# Altium schematic symbol library fpga_xilinx_ultrascale.SchLib: 7 symbols (part 6 of 6)
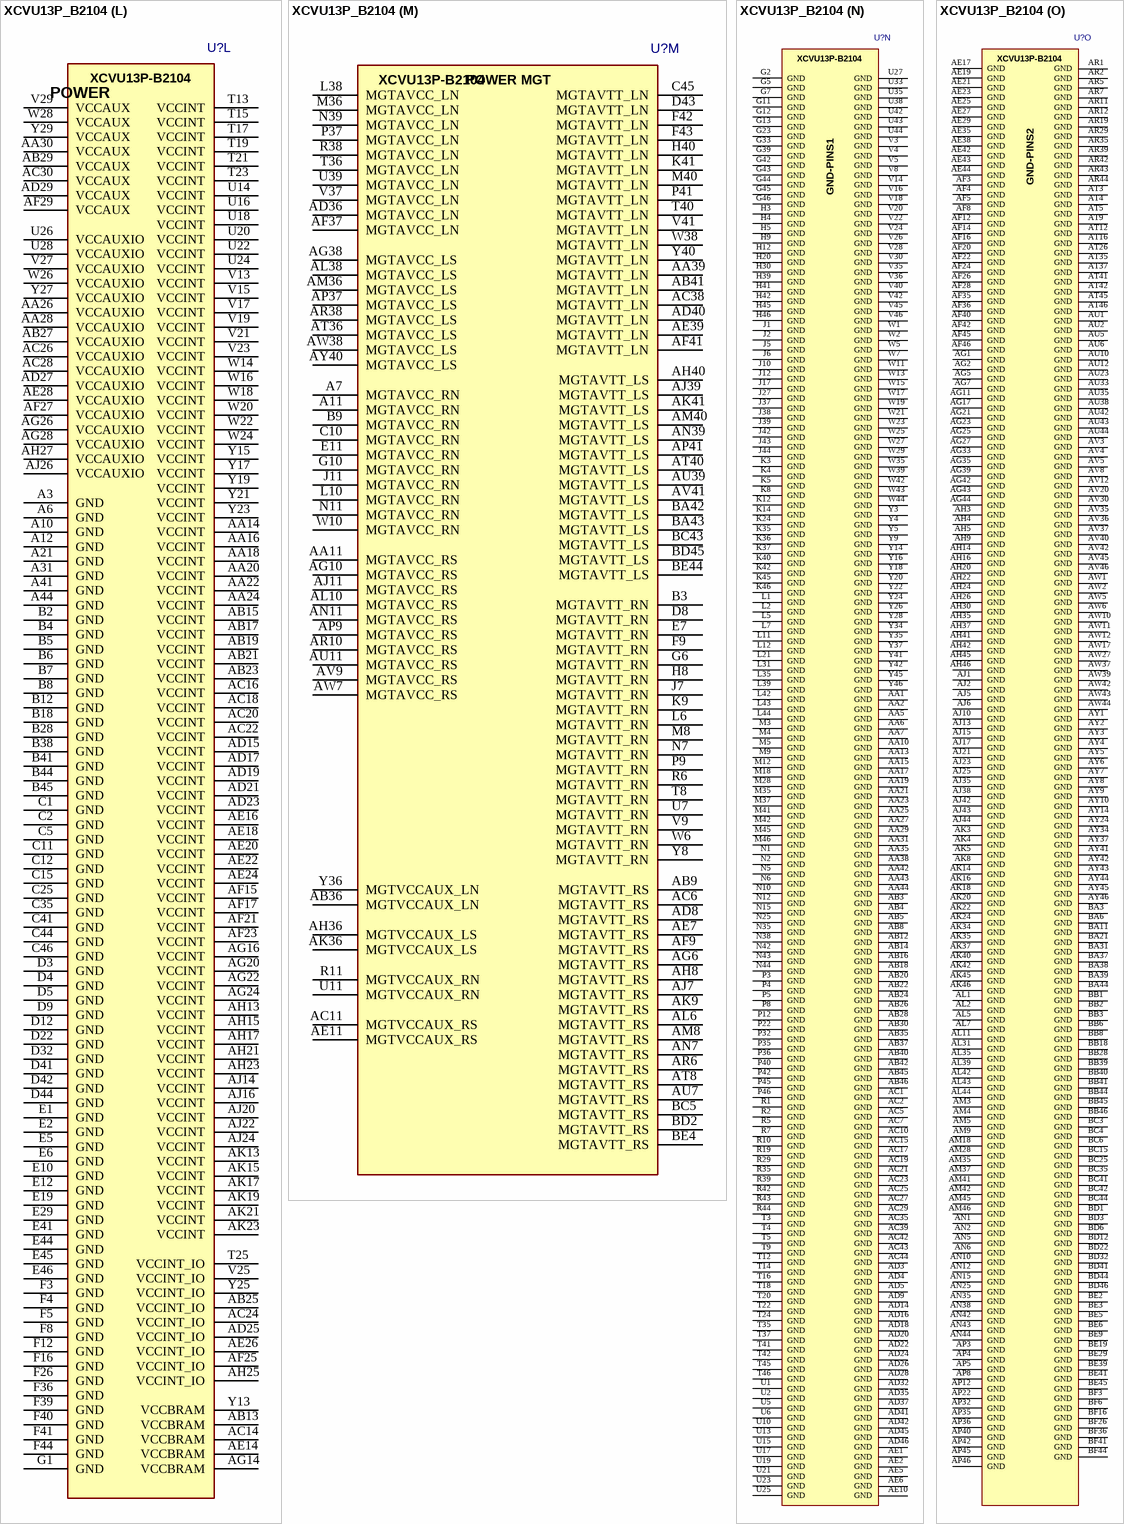
[diagram p34: symbol XCVU13P_B2104]

## XCVU13P_B2104
designator U?  (value not drawn)
Xilinx FPGA Ultrascale, Virtex KU115, BGA2104; MANF_P#: XCVU13P-2FHGB2104E; ASSEMBLY: ASSEMBLY; MANF: XILINX; VALUE: XCVU13P_B2104; PACKAGE: FHGB2104
footprint BGA100_2104_S52 (Footprint not found)
part A pins: AA12 PUDC_B_0, AC12 DONE_0, AC13 TDO_0, AD12 POR_OVERRIDE, AD13 VCCO_0, AE12 PROGRAM_B_0, AE13 TCK_0, AE15 TDI_0, AF13 VCCO_0, AF18 GNDADC, AF19 VCCADC, AG12 RDWR_FCS_B_0, AG13 CCLK_0, AG15 TMS_0, AG18 VREFN, AG19 VP, AH12 D03_0, AH18 VN, AH19 VREFP, AJ12 D01_DIN_0, AJ18 DXN, AJ19 DXP, AK12 D00_MOSI_0, AL12 D02_0, AM12 VBATT, R12 M2_0, U12 M1_0, V12 M0_0, W12 RSVDGND, Y12 INIT_B_0
part B pins: AK30 VREF_61, AK33 VREF_62, AL29 IO_L24P_T3U_N10_61, AL30 IO_L24N_T3U_N11_61, AL32 IO_L23P_T3U_N8_62, AL33 IO_T3U_N12_62, AL34 IO_L24P_T3U_N10_62, AM29 IO_L22P_T3U_N6_DBC_AD0P_61, AM30 IO_L22N_T3U_N7_DBC_AD0N_61, AM31 IO_L23P_T3U_N8_61, AM32 IO_L23N_T3U_N9_62, AM33 VCCO_62, AM34 IO_L24N_T3U_N11_62, AN29 IO_L21P_T3L_N4_AD8P_61, AN30 VCCO_61, AN31 IO_L23N_T3U_N9_61, AN32 IO_L22P_T3U_N6_DBC_AD0P_62, AN33 IO_L22N_T3U_N7_DBC_AD0N_62, AN34 IO_L21P_T3L_N4_AD8P_62, AP29 IO_L21N_T3L_N5_AD8N_61, AP30 IO_L20P_T3L_N2_AD1P_61, AP31 IO_L19P_T3L_N0_DBC_AD9P_61, AP33 IO_L20P_T3L_N2_AD1P_62, AP34 IO_L21N_T3L_N5_AD8N_62, AR30 IO_L20N_T3L_N3_AD1N_61, AR31 IO_L19N_T3L_N1_DBC_AD9N_61, AR32 IO_T3U_N12_61, AR33 IO_L20N_T3L_N3_AD1N_62, AR34 VCCO_62, AT29 IO_L18P_T2U_N10_AD2P_61, AT30 IO_L18N_T2U_N11_AD2N_61, AT31 VCCO_61, AT32 IO_T2U_N12_61, AT33 IO_L19P_T3L_N0_DBC_AD9P_62, AT34 IO_L19N_T3L_N1_DBC_AD9N_62, AU29 IO_L16P_T2U_N6_QBC_AD3P_61, AU30 IO_L17P_T2U_N8_AD10P_61, AU31 IO_L17N_T2U_N9_AD10N_61, AU32 IO_L15P_T2L_N4_AD11P_61, AU34 IO_T2U_N12_62, AV29 IO_L16N_T2U_N7_QBC_AD3N_61, AV31 IO_L14P_T2L_N2_GC_61, AV32 IO_L15N_T2L_N5_AD11N_61, AV33 IO_L18P_T2U_N10_AD2P_62, AV34 IO_L17P_T2U_N8_AD10P_62, AW29 IO_L13P_T2L_N0_GC_QBC_61, AW30 IO_L13N_T2L_N1_GC_QBC_61, AW31 IO_L14N_T2L_N3_GC_61, AW32 VCCO_61, AW33 IO_L18N_T2U_N11_AD2N_62, AW34 IO_L17N_T2U_N9_AD10N_62, AW35 IO_L16P_T2U_N6_QBC_AD3P_62, AW36 IO_L16N_T2U_N7_QBC_AD3N_62, AY29 VCCO_61, AY30 IO_L11P_T1U_N8_GC_61, AY31 IO_L12P_T1U_N10_GC_61, AY32 IO_L12N_T1U_N11_GC_61, AY33 IO_L15P_T2L_N4_AD11P_62, AY35 IO_L14P_T2L_N2_GC_62, AY36 IO_L14N_T2L_N3_GC_62, BA29 IO_L9P_T1L_N4_AD12P_61, BA30 IO_L11N_T1U_N9_GC_61, BA32 IO_L10P_T1U_N6_QBC_AD4P_61, BA33 IO_L15N_T2L_N5_AD11N_62, BA34 IO_L13P_T2L_N0_GC_QBC_62, BA35 IO_L12P_T1U_N10_GC_62, BA36 VCCO_62, BB29 IO_L9N_T1L_N5_AD12N_61, BB30 IO_L8P_T1L_N2_AD5P_61, BB31 IO_L8N_T1L_N3_AD5N_61, BB32 IO_L10N_T1U_N7_QBC_AD4N_61, BB33 VCCO_62, BB34 IO_L13N_T2L_N1_GC_QBC_62, BB35 IO_L12N_T1U_N11_GC_62, BB36 IO_L11P_T1U_N8_GC_62, BB37 IO_L10P_T1U_N6_QBC_AD4P_62, BB38 IO_L6P_T0U_N10_AD6P_62, BC29 IO_L6P_T0U_N10_AD6P_61, BC30 VCCO_61, BC31 IO_L7P_T1L_N0_QBC_AD13P_61, BC32 IO_L7N_T1L_N1_QBC_AD13N_61, BC33 IO_T1U_N12_61, BC34 IO_L7P_T1L_N0_QBC_AD13P_62, BC36 IO_L11N_T1U_N9_GC_62, BC37 IO_L10N_T1U_N7_QBC_AD4N_62, BC38 IO_L6N_T0U_N11_AD6N_62, BC39 IO_L5P_T0U_N8_AD14P_62, BC40 VCCO_62, BD29 IO_L6N_T0U_N11_AD6N_61, BD30 IO_L4P_T0U_N6_DBC_AD7P_61, BD31 IO_L4N_T0U_N7_DBC_AD7N_61, BD33 IO_L5P_T0U_N8_AD14P_61, BD34 IO_L7N_T1L_N1_QBC_AD13N_62, BD35 IO_L8P_T1L_N2_AD5P_62, BD36 IO_L9P_T1L_N4_AD12P_62, BD37 VCCO_62, BD38 IO_T0U_N12_VRP_62, BD39 IO_L5N_T0U_N9_AD14N_62, BD40 IO_L4P_T0U_N6_DBC_AD7P_62, BE30 IO_L3P_T0L_N4_AD15P_61, BE31 IO_L2P_T0L_N2_61, BE32 IO_L2N_T0L_N3_61, BE33 IO_L5N_T0U_N9_AD14N_61, BE34 VCCO_62, BE35 IO_L8N_T1L_N3_AD5N_62, BE36 IO_L9N_T1L_N5_AD12N_62, BE37 IO_L3P_T0L_N4_AD15P_62, BE38 IO_L2P_T0L_N2_62, BE40 IO_L4N_T0U_N7_DBC_AD7N_62, BF30 IO_L3N_T0L_N5_AD15N_61, BF31 VCCO_61, BF32 IO_L1P_T0L_N0_DBC_61, BF33 IO_L1N_T0L_N1_DBC_61, BF34 IO_T0U_N12_VRP_61, BF35 IO_T1U_N12_62, BF37 IO_L3N_T0L_N5_AD15N_62, BF38 IO_L2N_T0L_N3_62, BF39 IO_L1P_T0L_N0_DBC_62, BF40 IO_L1N_T0L_N1_DBC_62
part C pins: AA32 IO_L19P_T3L_N0_DBC_AD9P_63, AA33 IO_L19N_T3L_N1_DBC_AD9N_63, AA34 IO_L20P_T3L_N2_AD1P_63, AB31 VREF_63, AB32 IO_T3U_N12_63, AB33 VCCO_63, AB34 IO_L20N_T3L_N3_AD1N_63, AC31 IO_L16P_T2U_N6_QBC_AD3P_63, AC32 IO_L17P_T2U_N8_AD10P_63, AC33 IO_L17N_T2U_N9_AD10N_63, AC34 IO_L18P_T2U_N10_AD2P_63, AD30 IO_T2U_N12_63, AD31 IO_L16N_T2U_N7_QBC_AD3N_63, AD33 IO_L14P_T2L_N2_GC_63, AD34 IO_L18N_T2U_N11_AD2N_63, AE30 IO_L15P_T2L_N4_AD11P_63, AE31 IO_L13P_T2L_N0_GC_QBC_63, AE32 IO_L13N_T2L_N1_GC_QBC_63, AE33 IO_L14N_T2L_N3_GC_63, AE34 VCCO_63, AF30 IO_L15N_T2L_N5_AD11N_63, AF31 VCCO_63, AF32 IO_L12P_T1U_N10_GC_63, AF33 IO_L12N_T1U_N11_GC_63, AF34 IO_L9P_T1L_N4_AD12P_63, AG29 IO_L5P_T0U_N8_AD14P_63, AG30 IO_L5N_T0U_N9_AD14N_63, AG31 IO_L11P_T1U_N8_GC_63, AG32 IO_L11N_T1U_N9_GC_63, AG34 IO_L9N_T1L_N5_AD12N_63, AH28 IO_L4P_T0U_N6_DBC_AD7P_63, AH29 IO_L4N_T0U_N7_DBC_AD7N_63, AH31 IO_L10P_T1U_N6_QBC_AD4P_63, AH32 IO_L10N_T1U_N7_QBC_AD4N_63, AH33 IO_L8P_T1L_N2_AD5P_63, AH34 IO_L7P_T1L_N0_QBC_AD13P_63, AJ27 IO_L1P_T0L_N0_DBC_63, AJ28 IO_L2P_T0L_N2_63, AJ29 IO_L3P_T0L_N4_AD15P_63, AJ30 IO_L3N_T0L_N5_AD15N_63, AJ31 IO_L6P_T0U_N10_AD6P_63, AJ32 VCCO_63, AJ33 IO_L8N_T1L_N3_AD5N_63, AJ34 IO_L7N_T1L_N1_QBC_AD13N_63, AK26 IO_T0U_N12_VRP_63, AK27 IO_L1N_T0L_N1_DBC_63, AK28 IO_L2N_T0L_N3_63, AK29 VCCO_63, AK31 IO_L6N_T0U_N11_AD6N_63, AK32 IO_T1U_N12_63, AL21 IO_L24P_T3U_N10_64, AL22 IO_L23P_T3U_N8_64, AL23 VREF_64, AL24 IO_L22P_T3U_N6_DBC_AD0P_64, AM21 IO_L24N_T3U_N11_64, AM22 IO_L23N_T3U_N9_64, AM23 VCCO_64, AM24 IO_L22N_T3U_N7_DBC_AD0N_64, AN21 IO_L19N_T3L_N1_DBC_AD9N_64, AN22 IO_L19P_T3L_N0_DBC_AD9P_64, AN23 IO_L20P_T3L_N2_AD1P_64, AN24 IO_L21P_T3L_N4_AD8P_64, AP21 IO_T3U_N12_64, AP23 IO_L20N_T3L_N3_AD1N_64, AP24 IO_L21N_T3L_N5_AD8N_64, AR21 IO_T2U_N12_64, AR22 IO_L16P_T2U_N6_QBC_AD3P_64, AR23 IO_L17P_T2U_N8_AD10P_64, AR24 VCCO_64, AT21 VCCO_64, AT22 IO_L16N_T2U_N7_QBC_AD3N_64, AT23 IO_L17N_T2U_N9_AD10N_64, AT24 IO_L18P_T2U_N10_AD2P_64, AU22 IO_L15P_T2L_N4_AD11P_64, AU24 IO_L18N_T2U_N11_AD2N_64, AV22 IO_L15N_T2L_N5_AD11N_64, AV23 IO_L13P_T2L_N0_GC_QBC_64, AV24 IO_L14P_T2L_N2_GC_64, AW22 VCCO_64, AW23 IO_L13N_T2L_N1_GC_QBC_64, AW24 IO_L14N_T2L_N3_GC_64, AY21 NC, AY22 IO_L11P_T1U_N8_GC_64, AY23 IO_L12P_T1U_N10_GC_64, BA20 IO_L7P_T1L_N0_QBC_AD13P_64, BA22 IO_L11N_T1U_N9_GC_64, BA23 IO_L12N_T1U_N11_GC_64, BA24 IO_L10P_T1U_N6_QBC_AD4P_64, BB20 IO_L7N_T1L_N1_QBC_AD13N_64, BB21 IO_L8P_T1L_N2_AD5P_64, BB22 IO_L9P_T1L_N4_AD12P_64, BB23 VCCO_64, BB24 IO_L10N_T1U_N7_QBC_AD4N_64, BC20 VCCO_64, BC21 IO_L8N_T1L_N3_AD5N_64, BC22 IO_L9N_T1L_N5_AD12N_64, BC23 IO_T1U_N12_64, BC24 IO_L3P_T0L_N4_AD15P_64, BD20 IO_L6P_T0U_N10_AD6P_64, BD21 IO_L5P_T0U_N8_AD14P_64, BD23 IO_L2P_T0L_N2_64, BD24 IO_L3N_T0L_N5_AD15N_64, BE20 IO_L6N_T0U_N11_AD6N_64, BE21 IO_L5N_T0U_N9_AD14N_64, BE22 IO_L4P_T0U_N6_DBC_AD7P_64, BE23 IO_L2N_T0L_N3_64, BE24 VCCO_64, BF20 IO_T0U_N12_VRP_64, BF21 VCCO_64, BF22 IO_L4N_T0U_N7_DBC_AD7N_64, BF23 IO_L1N_T0L_N1_DBC_64, BF24 IO_L1P_T0L_N0_DBC_64, W30 IO_L21P_T3L_N4_AD8P_63, W31 IO_L22P_T3U_N6_DBC_AD0P_63, W32 VCCO_63, W33 IO_L24P_T3U_N10_63, W34 IO_L24N_T3U_N11_63, Y30 IO_L21N_T3L_N5_AD8N_63, Y31 IO_L22N_T3U_N7_DBC_AD0N_63, Y32 IO_L23P_T3U_N8_63, Y33 IO_L23N_T3U_N9_63
part D pins: AK25 VREF_65, AL16 VCCO_66, AL17 IO_L22P_T3U_N6_DBC_AD0P_66, AL18 VREF_66, AL19 IO_L23P_T3U_N8_66, AL20 IO_L24P_T3U_N10_66, AL25 IO_L21P_T3L_N4_AD8P_D06_65, AL26 VCCO_65, AL27 IO_L24P_T3U_N10_EMCCLK_65, AL28 IO_L24N_T3U_N11_DOUT_CSO_B_65, AM16 IO_L21P_T3L_N4_AD8P_66, AM17 IO_L22N_T3U_N7_DBC_AD0N_66, AM19 IO_L23N_T3U_N9_66, AM20 IO_L24N_T3U_N11_66, AM25 IO_L21N_T3L_N5_AD8N_D07_65, AM26 IO_L22P_T3U_N6_DBC_AD0P_D04_65, AM27 IO_L23P_T3U_N8_I2C_SCLK_65, AN16 IO_L21N_T3L_N5_AD8N_66, AN17 IO_L19N_T3L_N1_DBC_AD9N_66, AN18 IO_L19P_T3L_N0_DBC_AD9P_66, AN19 IO_L20P_T3L_N2_AD1P_66, AN20 VCCO_66, AN26 IO_L22N_T3U_N7_DBC_AD0N_D05_65, AN27 IO_L23N_T3U_N9_PERSTN1_I2C_SDA_65, AN28 IO_L20P_T3L_N2_AD1P_D08_65, AP16 IO_T3U_N12_66, AP17 VCCO_66, AP18 IO_L17P_T2U_N8_AD10P_66, AP19 IO_L20N_T3L_N3_AD1N_66, AP20 IO_L18P_T2U_N10_AD2P_66, AP25 IO_L19P_T3L_N0_DBC_AD9P_D10_65, AP26 IO_L19N_T3L_N1_DBC_AD9N_D11_65, AP27 VCCO_65, AP28 IO_L20N_T3L_N3_AD1N_D09_65, AR17 IO_L16P_T2U_N6_QBC_AD3P_66, AR18 IO_L17N_T2U_N9_AD10N_66, AR20 IO_L18N_T2U_N11_AD2N_66, AR25 IO_L16P_T2U_N6_QBC_AD3P_A00_D16_65, AR26 IO_T3U_N12_PERSTN0_65, AR27 IO_L17P_T2U_N8_AD10P_D14_65, AR28 IO_L18P_T2U_N10_AD2P_D12_65, AT17 IO_L16N_T2U_N7_QBC_AD3N_66, AT18 IO_L15P_T2L_N4_AD11P_66, AT19 IO_L13P_T2L_N0_GC_QBC_66, AT20 IO_L14P_T2L_N2_GC_66, AT25 IO_L16N_T2U_N7_QBC_AD3N_A01_D17_65, AT27 IO_L17N_T2U_N9_AD10N_D15_65, AT28 IO_L18N_T2U_N11_AD2N_D13_65, AU17 IO_L15N_T2L_N5_AD11N_66, AU18 VCCO_66, AU19 IO_L13N_T2L_N1_GC_QBC_66, AU20 IO_L14N_T2L_N3_GC_66, AU21 IO_T2U_N12_66, AU25 IO_T2U_N12_CSI_ADV_B_65, AU26 IO_L15P_T2L_N4_AD11P_A02_D18_65, AU27 IO_L15N_T2L_N5_AD11N_A03_D19_65, AU28 VCCO_65, AV17 IO_T1U_N12_66, AV18 IO_L11P_T1U_N8_GC_66, AV19 IO_L12P_T1U_N10_GC_66, AV21 IO_L10P_T1U_N6_QBC_AD4P_66, AV25 VCCO_65, AV26 IO_L13P_T2L_N0_GC_QBC_A06_D22_65, AV27 IO_L14P_T2L_N2_GC_A04_D20_65, AV28 IO_L14N_T2L_N3_GC_A05_D21_65, AW18 IO_L11N_T1U_N9_GC_66, AW19 IO_L12N_T1U_N11_GC_66, AW20 IO_L9P_T1L_N4_AD12P_66, AW21 IO_L10N_T1U_N7_QBC_AD4N_66, AW25 IO_L10P_T1U_N6_QBC_AD4P_A12_D28_65, AW26 IO_L13N_T2L_N1_GC_QBC_A07_D23_65, AW28 IO_L12P_T1U_N10_GC_A08_D24_65, AY17 IO_L7P_T1L_N0_QBC_AD13P_66, AY18 IO_L8P_T1L_N2_AD5P_66, AY19 VCCO_66, AY20 IO_L9N_T1L_N5_AD12N_66, AY25 IO_L10N_T1U_N7_QBC_AD4N_A13_D29_65, AY26 IO_L11P_T1U_N8_GC_A10_D26_65, AY27 IO_L11N_T1U_N9_GC_A11_D27_65, AY28 IO_L12N_T1U_N11_GC_A09_D25_65, BA17 IO_L7N_T1L_N1_QBC_AD13N_66, BA18 IO_L8N_T1L_N3_AD5N_66, BA19 IO_T0U_N12_VRP_66, BA25 IO_L7P_T1L_N0_QBC_AD13P_A18_65, BA26 VCCO_65, BA27 IO_L9P_T1L_N4_AD12P_A14_D30_65, BA28 IO_L9N_T1L_N5_AD12N_A15_D31_65, BB17 IO_L5P_T0U_N8_AD14P_66, BB19 IO_L6P_T0U_N10_AD6P_66, BB25 IO_L7N_T1L_N1_QBC_AD13N_A19_65, BB26 IO_L8P_T1L_N2_AD5P_A16_65, BB27 IO_L8N_T1L_N3_AD5N_A17_65, BC17 IO_L5N_T0U_N9_AD14N_66, BC18 IO_L6N_T0U_N11_AD6N_66, BC19 IO_L4P_T0U_N6_DBC_AD7P_66, BC26 IO_L6P_T0U_N10_AD6P_A20_65, BC27 IO_L6N_T0U_N11_AD6N_A21_65, BC28 IO_T1U_N12_SMBALERT_65, BD17 VCCO_66, BD18 IO_L3P_T0L_N4_AD15P_66, BD19 IO_L4N_T0U_N7_DBC_AD7N_66, BD25 IO_T0U_N12_VRP_A28_65, BD26 IO_L4P_T0U_N6_DBC_AD7P_A24_65, BD27 VCCO_65, BD28 IO_L3P_T0L_N4_AD15P_A26_65, BE17 IO_L1P_T0L_N0_DBC_66, BE18 IO_L3N_T0L_N5_AD15N_66, BE25 IO_L5P_T0U_N8_AD14P_A22_65, BE26 IO_L4N_T0U_N7_DBC_AD7N_A25_65, BE27 IO_L2P_T0L_N2_FOE_B_65, BE28 IO_L3N_T0L_N5_AD15N_A27_65, BF17 IO_L1N_T0L_N1_DBC_66, BF18 IO_L2N_T0L_N3_66, BF19 IO_L2P_T0L_N2_66, BF25 IO_L5N_T0U_N9_AD14N_A23_65, BF27 IO_L2N_T0L_N3_FWE_FCS2_B_65, BF28 IO_L1P_T0L_N0_DBC_RS0_65, BF29 IO_L1N_T0L_N1_DBC_RS1_65
part E pins: AL13 VREF_67, AL14 IO_L24P_T3U_N10_67, AL15 IO_L23P_T3U_N8_67, AM13 VCCO_67, AM14 IO_L24N_T3U_N11_67, AM15 IO_L23N_T3U_N9_67, AN13 IO_L21N_T3L_N5_AD8N_67, AN14 IO_L21P_T3L_N4_AD8P_67, AP13 IO_L22P_T3U_N6_DBC_AD0P_67, AP14 IO_L20N_T3L_N3_AD1N_67, AP15 IO_L20P_T3L_N2_AD1P_67, AR13 IO_L22N_T3U_N7_DBC_AD0N_67, AR14 VCCO_67, AR15 IO_L19N_T3L_N1_DBC_AD9N_67, AR16 IO_L19P_T3L_N0_DBC_AD9P_67, AT13 IO_T3U_N12_67, AT14 IO_T2U_N12_67, AT15 IO_L17P_T2U_N8_AD10P_67, AU13 IO_L15P_T2L_N4_AD11P_67, AU14 IO_L16P_T2U_N6_QBC_AD3P_67, AU15 IO_L17N_T2U_N9_AD10N_67, AU16 IO_L18P_T2U_N10_AD2P_67, AV13 IO_L15N_T2L_N5_AD11N_67, AV14 IO_L16N_T2U_N7_QBC_AD3N_67, AV15 VCCO_67, AV16 IO_L18N_T2U_N11_AD2N_67, AW13 IO_L13N_T2L_N1_GC_QBC_67, AW14 IO_L13P_T2L_N0_GC_QBC_67, AW15 IO_L14N_T2L_N3_GC_67, AW16 IO_L14P_T2L_N2_GC_67, AY11 IO_L8N_T1L_N3_AD5N_67, AY12 IO_L8P_T1L_N2_AD5P_67, AY13 IO_L12P_T1U_N10_GC_67, AY15 IO_L9N_T1L_N5_AD12N_67, AY16 IO_L9P_T1L_N4_AD12P_67, BA7 IO_L10P_T1U_N6_QBC_AD4P_68, BA8 IO_L12N_T1U_N11_GC_68, BA9 IO_L12P_T1U_N10_GC_68, BA10 VREF_68, BA12 IO_L7P_T1L_N0_QBC_AD13P_67, BA13 IO_L12N_T1U_N11_GC_67, BA14 IO_L11N_T1U_N9_GC_67, BA15 IO_L11P_T1U_N8_GC_67, BA16 VCCO_67, BB7 IO_L10N_T1U_N7_QBC_AD4N_68, BB9 IO_L11P_T1U_N8_GC_68, BB10 IO_L8N_T1L_N3_AD5N_68, BB11 IO_L8P_T1L_N2_AD5P_68, BB12 IO_L7N_T1L_N1_QBC_AD13N_67, BB13 VCCO_67, BB14 IO_L10N_T1U_N7_QBC_AD4N_67, BB15 IO_L10P_T1U_N6_QBC_AD4P_67, BB16 IO_T1U_N12_67, BC7 IO_L9N_T1L_N5_AD12N_68, BC8 IO_L9P_T1L_N4_AD12P_68, BC9 IO_L11N_T1U_N9_GC_68, BC10 VCCO_68, BC11 IO_L7N_T1L_N1_QBC_AD13N_68, BC12 IO_L7P_T1L_N0_QBC_AD13P_68, BC13 IO_L6N_T0U_N11_AD6N_67, BC14 IO_L6P_T0U_N10_AD6P_67, BC16 IO_T0U_N12_VRP_67, BD7 VCCO_68, BD8 IO_L6N_T0U_N11_AD6N_68, BD9 IO_L6P_T0U_N10_AD6P_68, BD10 IO_T0U_N12_VRP_68, BD11 IO_T1U_N12_68, BD13 IO_L4P_T0U_N6_DBC_AD7P_67, BD14 IO_L5N_T0U_N9_AD14N_67, BD15 IO_L5P_T0U_N8_AD14P_67, BD16 IO_L3P_T0L_N4_AD15P_67, BE7 IO_L1P_T0L_N0_DBC_68, BE8 IO_L2P_T0L_N2_68, BE10 IO_L4N_T0U_N7_DBC_AD7N_68, BE11 IO_L4P_T0U_N6_DBC_AD7P_68, BE12 IO_L5P_T0U_N8_AD14P_68, BE13 IO_L4N_T0U_N7_DBC_AD7N_67, BE14 VCCO_67, BE15 IO_L2P_T0L_N2_67, BE16 IO_L3N_T0L_N5_AD15N_67, BF7 IO_L1N_T0L_N1_DBC_68, BF8 IO_L2N_T0L_N3_68, BF9 IO_L3N_T0L_N5_AD15N_68, BF10 IO_L3P_T0L_N4_AD15P_68, BF11 VCCO_68, BF12 IO_L5N_T0U_N9_AD14N_68, BF13 IO_L1N_T0L_N1_DBC_67, BF14 IO_L1P_T0L_N0_DBC_67, BF15 IO_L2N_T0L_N3_67
part F pins: A32 IO_L22P_T3U_N6_DBC_AD0P_70, A33 IO_L22N_T3U_N7_DBC_AD0N_70, A34 IO_L19N_T3L_N1_DBC_AD9N_70, A35 IO_L17N_T2U_N9_AD10N_70, A36 VCCO_70, A37 IO_L15P_T2L_N4_AD11P_70, A38 IO_L15N_T2L_N5_AD11N_70, A39 IO_L10N_T1U_N7_QBC_AD4N_70, A40 IO_L9N_T1L_N5_AD12N_70, B31 IO_T3U_N12_70, B32 IO_L23N_T3U_N9_70, B33 VCCO_70, B34 IO_L19P_T3L_N0_DBC_AD9P_70, B35 IO_L17P_T2U_N8_AD10P_70, B36 IO_L16P_T2U_N6_QBC_AD3P_70, B37 IO_L16N_T2U_N7_QBC_AD3N_70, B39 IO_L10P_T1U_N6_QBC_AD4P_70, B40 IO_L9P_T1L_N4_AD12P_70, C31 IO_L24N_T3U_N11_70, C32 IO_L23P_T3U_N8_70, C33 IO_L21N_T3L_N5_AD8N_70, C34 IO_L20N_T3L_N3_AD1N_70, C36 IO_L13P_T2L_N0_GC_QBC_70, C37 IO_L13N_T2L_N1_GC_QBC_70, C38 IO_L12P_T1U_N10_GC_70, C39 IO_L12N_T1U_N11_GC_70, C40 VCCO_70, D31 IO_L24P_T3U_N10_70, D33 IO_L21P_T3L_N4_AD8P_70, D34 IO_L20P_T3L_N2_AD1P_70, D35 IO_L18N_T2U_N11_AD2N_70, D36 IO_L14N_T2L_N3_GC_70, D37 VCCO_70, D38 IO_L11N_T1U_N9_GC_70, D39 IO_L8N_T1L_N3_AD5N_70, D40 IO_L7N_T1L_N1_QBC_AD13N_70, E31 IO_T3U_N12_69, E32 IO_L23N_T3U_N9_69, E33 IO_L24N_T3U_N11_69, E34 VCCO_70, E35 IO_L18P_T2U_N10_AD2P_70, E36 IO_L14P_T2L_N2_GC_70, E37 IO_T2U_N12_70, E38 IO_L11P_T1U_N8_GC_70, E39 IO_L8P_T1L_N2_AD5P_70, E40 IO_L7P_T1L_N0_QBC_AD13P_70, F30 IO_L19N_T3L_N1_DBC_AD9N_69, F31 VCCO_69, F32 IO_L23P_T3U_N8_69, F33 IO_L24P_T3U_N10_69, F34 IO_L6P_T0U_N10_AD6P_70, F35 IO_L6N_T0U_N11_AD6N_70, F37 IO_L2N_T0L_N3_70, F38 IO_T1U_N12_70, G30 IO_L19P_T3L_N0_DBC_AD9P_69, G31 IO_L20N_T3L_N3_AD1N_69, G32 IO_L21N_T3L_N5_AD8N_69, G34 IO_L5N_T0U_N9_AD14N_70, G35 IO_T0U_N12_VRP_70, G36 IO_L4N_T0U_N7_DBC_AD7N_70, G37 IO_L2P_T0L_N2_70, G38 VCCO_70, H31 IO_L20P_T3L_N2_AD1P_69, H32 IO_L21P_T3L_N4_AD8P_69, H33 IO_L22N_T3U_N7_DBC_AD0N_69, H34 IO_L5P_T0U_N8_AD14P_70, H35 VCCO_70, H36 IO_L4P_T0U_N6_DBC_AD7P_70, H37 IO_L1P_T0L_N0_DBC_70, H38 IO_L1N_T0L_N1_DBC_70, J30 IO_L16N_T2U_N7_QBC_AD3N_69, J31 IO_L17N_T2U_N9_AD10N_69, J32 VCCO_69, J33 IO_L22P_T3U_N6_DBC_AD0P_69, J34 VREF_70, J35 IO_L3P_T0L_N4_AD15P_70, J36 IO_L3N_T0L_N5_AD15N_70, K30 IO_L16P_T2U_N6_QBC_AD3P_69, K31 IO_L17P_T2U_N8_AD10P_69, K32 IO_L14N_T2L_N3_GC_69, K33 IO_L18N_T2U_N11_AD2N_69, K34 IO_T2U_N12_69, L30 IO_L15N_T2L_N5_AD11N_69, L32 IO_L14P_T2L_N2_GC_69, L33 IO_L18P_T2U_N10_AD2P_69, L34 IO_L10N_T1U_N7_QBC_AD4N_69, M30 IO_L15P_T2L_N4_AD11P_69, M31 IO_L13P_T2L_N0_GC_QBC_69, M32 IO_L13N_T2L_N1_GC_QBC_69, M33 VCCO_69, M34 IO_L10P_T1U_N6_QBC_AD4P_69, N30 VCCO_69, N31 IO_L11N_T1U_N9_GC_69, N32 IO_L12P_T1U_N10_GC_69, N33 IO_L12N_T1U_N11_GC_69, N34 IO_L9N_T1L_N5_AD12N_69, P30 IO_L7N_T1L_N1_QBC_AD13N_69, P31 IO_L11P_T1U_N8_GC_69, P33 IO_T1U_N12_69, P34 IO_L9P_T1L_N4_AD12P_69, R30 IO_L7P_T1L_N0_QBC_AD13P_69, R31 IO_L8P_T1L_N2_AD5P_69, R32 IO_L8N_T1L_N3_AD5N_69, R33 IO_L2N_T0L_N3_69, R34 VCCO_69, T30 IO_L6N_T0U_N11_AD6N_69, T31 VCCO_69, T32 IO_L3N_T0L_N5_AD15N_69, T33 IO_L2P_T0L_N2_69, T34 IO_L1N_T0L_N1_DBC_69, U29 VREF_69, U30 IO_L6P_T0U_N10_AD6P_69, U31 IO_L5N_T0U_N9_AD14N_69, U32 IO_L3P_T0L_N4_AD15P_69, U34 IO_L1P_T0L_N0_DBC_69, V31 IO_L5P_T0U_N8_AD14P_69, V32 IO_L4P_T0U_N6_DBC_AD7P_69, V33 IO_L4N_T0U_N7_DBC_AD7N_69, V34 IO_T0U_N12_VRP_69
part G pins: A13 IO_L21N_T3L_N5_AD8N_72, A14 IO_L21P_T3L_N4_AD8P_72, A15 IO_L22N_T3U_N7_DBC_AD0N_72, A16 VCCO_72, A17 IO_L24N_T3U_N11_72, A27 IO_L22P_T3U_N6_DBC_AD0P_71, A28 IO_L22N_T3U_N7_DBC_AD0N_71, A29 IO_L23N_T3U_N9_71, A30 IO_L24N_T3U_N11_71, B13 VCCO_72, B14 IO_L20N_T3L_N3_AD1N_72, B15 IO_L22P_T3U_N6_DBC_AD0P_72, B16 IO_L23N_T3U_N9_72, B17 IO_L24P_T3U_N10_72, B27 IO_L19N_T3L_N1_DBC_AD9N_71, B29 IO_L23P_T3U_N8_71, B30 IO_L24P_T3U_N10_71, C13 IO_L19N_T3L_N1_DBC_AD9N_72, C14 IO_L20P_T3L_N2_AD1P_72, C16 IO_L23P_T3U_N8_72, C17 IO_T3U_N12_72, C27 IO_L19P_T3L_N0_DBC_AD9P_71, C28 IO_T3U_N12_71, C29 IO_L20N_T3L_N3_AD1N_71, C30 VCCO_71, D13 IO_L19P_T3L_N0_DBC_AD9P_72, D14 IO_T2U_N12_72, D15 IO_L17N_T2U_N9_AD10N_72, D16 IO_L18N_T2U_N11_AD2N_72, D27 VCCO_71, D28 IO_L18N_T2U_N11_AD2N_71, D29 IO_L20P_T3L_N2_AD1P_71, D30 IO_L21N_T3L_N5_AD8N_71, E13 IO_L15N_T2L_N5_AD11N_72, E14 VCCO_72, E15 IO_L17P_T2U_N8_AD10P_72, E16 IO_L18P_T2U_N10_AD2P_72, E26 IO_T2U_N12_71, E27 IO_L17N_T2U_N9_AD10N_71, E28 IO_L18P_T2U_N10_AD2P_71, E30 IO_L21P_T3L_N4_AD8P_71, F13 IO_L15P_T2L_N4_AD11P_72, F14 IO_L13N_T2L_N1_GC_QBC_72, F15 IO_L14N_T2L_N3_GC_72, F27 IO_L17P_T2U_N8_AD10P_71, F28 IO_L16P_T2U_N6_QBC_AD3P_71, F29 IO_L16N_T2U_N7_QBC_AD3N_71, G14 IO_L13P_T2L_N0_GC_QBC_72, G15 IO_L14P_T2L_N2_GC_72, G16 IO_L16N_T2U_N7_QBC_AD3N_72, G17 IO_L16P_T2U_N6_QBC_AD3P_72, G26 IO_L14P_T2L_N2_GC_71, G27 IO_L14N_T2L_N3_GC_71, G28 VCCO_71, G29 IO_L15N_T2L_N5_AD11N_71, H13 IO_L9N_T1L_N5_AD12N_72, H14 IO_L11N_T1U_N9_GC_72, H15 VCCO_72, H16 IO_L10N_T1U_N7_QBC_AD4N_72, H17 IO_L10P_T1U_N6_QBC_AD4P_72, H26 IO_L13N_T2L_N1_GC_QBC_71, H27 IO_L11P_T1U_N8_GC_71, H28 IO_L11N_T1U_N9_GC_71, H29 IO_L15P_T2L_N4_AD11P_71, J13 IO_L9P_T1L_N4_AD12P_72, J14 IO_L11P_T1U_N8_GC_72, J15 IO_L12N_T1U_N11_GC_72, J16 IO_L12P_T1U_N10_GC_72, J26 IO_L13P_T2L_N0_GC_QBC_71, J28 IO_L12P_T1U_N10_GC_71, J29 IO_L12N_T1U_N11_GC_71, K13 IO_L7N_T1L_N1_QBC_AD13N_72, K15 IO_L8N_T1L_N3_AD5N_72, K16 IO_L8P_T1L_N2_AD5P_72, K26 IO_L10P_T1U_N6_QBC_AD4P_71, K27 IO_L10N_T1U_N7_QBC_AD4N_71, K28 IO_L8N_T1L_N3_AD5N_71, K29 VCCO_71, L13 IO_L7P_T1L_N0_QBC_AD13P_72, L14 IO_L5N_T0U_N9_AD14N_72, L15 IO_T1U_N12_72, L16 VCCO_72, L26 VCCO_71, L27 IO_L9N_T1L_N5_AD12N_71, L28 IO_L8P_T1L_N2_AD5P_71, L29 IO_L7N_T1L_N1_QBC_AD13N_71, M13 VCCO_72, M14 IO_L5P_T0U_N8_AD14P_72, M15 IO_T0U_N12_VRP_72, M16 IO_L6N_T0U_N11_AD6N_72, M26 IO_T1U_N12_71, M27 IO_L9P_T1L_N4_AD12P_71, M29 IO_L7P_T1L_N0_QBC_AD13P_71, N13 IO_L1N_T0L_N1_DBC_72, N14 IO_L2N_T0L_N3_72, N16 IO_L6P_T0U_N10_AD6P_72, N26 IO_L6N_T0U_N11_AD6N_71, N27 IO_T0U_N12_VRP_71, N28 IO_L5N_T0U_N9_AD14N_71, N29 IO_L4N_T0U_N7_DBC_AD7N_71, P13 IO_L1P_T0L_N0_DBC_72, P14 IO_L2P_T0L_N2_72, P15 IO_L3N_T0L_N5_AD15N_72, P16 IO_L4N_T0U_N7_DBC_AD7N_72, P26 IO_L6P_T0U_N10_AD6P_71, P27 VCCO_71, P28 IO_L5P_T0U_N8_AD14P_71, P29 IO_L4P_T0U_N6_DBC_AD7P_71, R13 VREF_72, R14 VCCO_72, R15 IO_L3P_T0L_N4_AD15P_72, R16 IO_L4P_T0U_N6_DBC_AD7P_72, R26 IO_L3N_T0L_N5_AD15N_71, R27 IO_L2N_T0L_N3_71, R28 IO_L1N_T0L_N1_DBC_71, T26 IO_L3P_T0L_N4_AD15P_71, T27 IO_L2P_T0L_N2_71, T28 IO_L1P_T0L_N0_DBC_71, T29 VREF_71
part H pins: A18 IO_T3U_N12_73, A19 IO_L23N_T3U_N9_73, A20 IO_L24N_T3U_N11_73, A22 IO_L22N_T3U_N7_DBC_AD0N_74, A23 IO_L22P_T3U_N6_DBC_AD0P_74, A24 IO_L23N_T3U_N9_74, A25 IO_L24N_T3U_N11_74, A26 VCCO_74, B19 IO_L23P_T3U_N8_73, B20 IO_L24P_T3U_N10_73, B21 IO_L21N_T3L_N5_AD8N_73, B22 IO_L19N_T3L_N1_DBC_AD9N_74, B23 VCCO_74, B24 IO_L23P_T3U_N8_74, B25 IO_L24P_T3U_N10_74, B26 IO_L21N_T3L_N5_AD8N_74, C18 IO_L22N_T3U_N7_DBC_AD0N_73, C19 IO_L19N_T3L_N1_DBC_AD9N_73, C20 VCCO_73, C21 IO_L21P_T3L_N4_AD8P_73, C22 IO_L19P_T3L_N0_DBC_AD9P_74, C23 IO_L20N_T3L_N3_AD1N_74, C24 IO_L20P_T3L_N2_AD1P_74, C26 IO_L21P_T3L_N4_AD8P_74, D17 VCCO_73, D18 IO_L22P_T3U_N6_DBC_AD0P_73, D19 IO_L19P_T3L_N0_DBC_AD9P_73, D20 IO_L20N_T3L_N3_AD1N_73, D21 IO_L20P_T3L_N2_AD1P_73, D23 IO_L17N_T2U_N9_AD10N_74, D24 IO_L17P_T2U_N8_AD10P_74, D25 IO_L18N_T2U_N11_AD2N_74, D26 IO_T3U_N12_74, E17 IO_L16N_T2U_N7_QBC_AD3N_73, E18 IO_L16P_T2U_N6_QBC_AD3P_73, E20 IO_L17N_T2U_N9_AD10N_73, E21 IO_L17P_T2U_N8_AD10P_73, E22 IO_L16N_T2U_N7_QBC_AD3N_74, E23 IO_L16P_T2U_N6_QBC_AD3P_74, E24 VCCO_74, E25 IO_L18P_T2U_N10_AD2P_74, F17 IO_L18N_T2U_N11_AD2N_73, F18 IO_L18P_T2U_N10_AD2P_73, F19 IO_L15N_T2L_N5_AD11N_73, F20 IO_L15P_T2L_N4_AD11P_73, F21 VCCO_73, F22 IO_L15N_T2L_N5_AD11N_74, F23 IO_L14N_T2L_N3_GC_74, F24 IO_L14P_T2L_N2_GC_74, F25 IO_T2U_N12_74, G18 VCCO_73, G19 IO_L14N_T2L_N3_GC_73, G20 IO_L14P_T2L_N2_GC_73, G21 IO_T2U_N12_73, G22 IO_L15P_T2L_N4_AD11P_74, G24 IO_L13N_T2L_N1_GC_QBC_74, G25 IO_L13P_T2L_N0_GC_QBC_74, H18 IO_L13N_T2L_N1_GC_QBC_73, H19 IO_L13P_T2L_N0_GC_QBC_73, H21 IO_L10N_T1U_N7_QBC_AD4N_73, H22 IO_T1U_N12_74, H23 IO_L11N_T1U_N9_GC_74, H24 IO_L12N_T1U_N11_GC_74, H25 VCCO_74, J18 IO_L11N_T1U_N9_GC_73, J19 IO_L12N_T1U_N11_GC_73, J20 IO_L12P_T1U_N10_GC_73, J21 IO_L10P_T1U_N6_QBC_AD4P_73, J22 VCCO_74, J23 IO_L11P_T1U_N8_GC_74, J24 IO_L12P_T1U_N10_GC_74, J25 IO_L10N_T1U_N7_QBC_AD4N_74, K17 IO_L7N_T1L_N1_QBC_AD13N_73, K18 IO_L11P_T1U_N8_GC_73, K19 VCCO_73, K20 IO_L9N_T1L_N5_AD12N_73, K21 IO_T1U_N12_73, K22 IO_L8N_T1L_N3_AD5N_74, K23 IO_L9N_T1L_N5_AD12N_74, K25 IO_L10P_T1U_N6_QBC_AD4P_74, L17 IO_L7P_T1L_N0_QBC_AD13P_73, L18 IO_L8N_T1L_N3_AD5N_73, L19 IO_L8P_T1L_N2_AD5P_73, L20 IO_L9P_T1L_N4_AD12P_73, L22 IO_L8P_T1L_N2_AD5P_74, L23 IO_L9P_T1L_N4_AD12P_74, L24 IO_L7N_T1L_N1_QBC_AD13N_74, L25 IO_L7P_T1L_N0_QBC_AD13P_74, M17 IO_L1N_T0L_N1_DBC_73, M19 IO_L3N_T0L_N5_AD15N_73, M20 IO_L3P_T0L_N4_AD15P_73, M21 IO_L6N_T0U_N11_AD6N_73, M22 IO_L2N_T0L_N3_74, M23 VCCO_74, M24 IO_L5N_T0U_N9_AD14N_74, M25 IO_L5P_T0U_N8_AD14P_74, N17 IO_L1P_T0L_N0_DBC_73, N18 IO_L2N_T0L_N3_73, N19 IO_L4N_T0U_N7_DBC_AD7N_73, N20 VCCO_73, N21 IO_L6P_T0U_N10_AD6P_73, N22 IO_L2P_T0L_N2_74, N23 IO_L3N_T0L_N5_AD15N_74, N24 IO_L4N_T0U_N7_DBC_AD7N_74, P17 VCCO_73, P18 IO_L2P_T0L_N2_73, P19 IO_L4P_T0U_N6_DBC_AD7P_73, P20 IO_L5N_T0U_N9_AD14N_73, P21 IO_L1N_T0L_N1_DBC_74, P23 IO_L3P_T0L_N4_AD15P_74, P24 IO_L4P_T0U_N6_DBC_AD7P_74, P25 IO_L6N_T0U_N11_AD6N_74, R17 VREF_73, R18 IO_T0U_N12_VRP_73, R20 IO_L5P_T0U_N8_AD14P_73, R21 IO_L1P_T0L_N0_DBC_74, R22 VREF_74, R23 IO_T0U_N12_VRP_74, R24 VCCO_74, R25 IO_L6P_T0U_N10_AD6P_74
part I pins: AF1 MGTYRXN3_227, AF2 MGTYRXP3_227, AF6 MGTYTXN3_227, AF7 MGTYTXP3_227, AF10 MGTREFCLK1N_227, AF11 MGTREFCLK1P_227, AF38 MGTYTXP3_127, AF39 MGTYTXN3_127, AF43 MGTYRXP3_127, AF44 MGTYRXN3_127, AG3 MGTYRXN2_227, AG4 MGTYRXP2_227, AG8 MGTYTXN2_227, AG9 MGTYTXP2_227, AG40 MGTYTXP2_127, AG41 MGTYTXN2_127, AG45 MGTYRXP2_127, AG46 MGTYRXN2_127, AH1 MGTYRXN1_227, AH2 MGTYRXP1_227, AH6 MGTYTXN1_227, AH7 MGTYTXP1_227, AH10 MGTREFCLK0N_227, AH11 MGTREFCLK0P_227, AH38 MGTYTXP1_127, AH39 MGTYTXN1_127, AH43 MGTYRXP1_127, AH44 MGTYRXN1_127, AJ3 MGTYRXN0_227, AJ4 MGTYRXP0_227, AJ8 MGTYTXN0_227, AJ9 MGTYTXP0_227, AJ36 MGTREFCLK1P_127, AJ37 MGTREFCLK1N_127, AJ40 MGTYTXP0_127, AJ41 MGTYTXN0_127, AJ45 MGTYRXP0_127, AJ46 MGTYRXN0_127, AK1 MGTYRXN3_226, AK2 MGTYRXP3_226, AK6 MGTYTXN3_226, AK7 MGTYTXP3_226, AK10 MGTREFCLK1N_226, AK11 MGTREFCLK1P_226, AK38 MGTYTXP3_126, AK39 MGTYTXN3_126, AK43 MGTYRXP3_126, AK44 MGTYRXN3_126, AL3 MGTYRXN2_226, AL4 MGTYRXP2_226, AL8 MGTYTXN2_226, AL9 MGTYTXP2_226, AL36 MGTREFCLK0P_127, AL37 MGTREFCLK0N_127, AL40 MGTYTXP2_126, AL41 MGTYTXN2_126, AL45 MGTYRXP2_126, AL46 MGTYRXN2_126, AM1 MGTYRXN1_226, AM2 MGTYRXP1_226, AM6 MGTYTXN1_226, AM7 MGTYTXP1_226, AM10 MGTREFCLK0N_226, AM11 MGTREFCLK0P_226, AM38 MGTYTXP1_126, AM39 MGTYTXN1_126, AM43 MGTYRXP1_126, AM44 MGTYRXN1_126, AN3 MGTYRXN0_226, AN4 MGTYRXP0_226, AN8 MGTYTXN0_226, AN9 MGTYTXP0_226, AN36 MGTREFCLK1P_126, AN37 MGTREFCLK1N_126, AN40 MGTYTXP0_126, AN41 MGTYTXN0_126, AN45 MGTYRXP0_126, AN46 MGTYRXN0_126, AP1 MGTYRXN3_225, AP2 MGTYRXP3_225, AP6 MGTYTXN3_225, AP7 MGTYTXP3_225, AP10 MGTREFCLK1N_225, AP11 MGTREFCLK1P_225, AP38 MGTYTXP3_125, AP39 MGTYTXN3_125, AP43 MGTYRXP3_125, AP44 MGTYRXN3_125, AR3 MGTYRXN2_225, AR4 MGTYRXP2_225, AR8 MGTYTXN2_225, AR9 MGTYTXP2_225, AR36 MGTREFCLK0P_126, AR37 MGTREFCLK0N_126, AR40 MGTYTXP2_125, AR41 MGTYTXN2_125, AR45 MGTYRXP2_125, AR46 MGTYRXN2_125, AT1 MGTYRXN1_225, AT2 MGTYRXP1_225, AT6 MGTYTXN1_225, AT7 MGTYTXP1_225, AT10 MGTREFCLK0N_225, AT11 MGTREFCLK0P_225, AT38 MGTYTXP1_125, AT39 MGTYTXN1_125, AT43 MGTYRXP1_125, AT44 MGTYRXN1_125, AU3 MGTYRXN0_225, AU4 MGTYRXP0_225, AU8 MGTYTXN0_225, AU9 MGTYTXP0_225, AU36 MGTREFCLK1P_125, AU37 MGTREFCLK1N_125, AU40 MGTYTXP0_125, AU41 MGTYTXN0_125, AU45 MGTYRXP0_125, AU46 MGTYRXN0_125, AV1 MGTYRXN3_224, AV2 MGTYRXP3_224, AV6 MGTYTXN3_224, AV7 MGTYTXP3_224, AV10 MGTREFCLK1N_224, AV11 MGTREFCLK1P_224, AV38 MGTREFCLK0P_125, AV39 MGTREFCLK0N_125, AV43 MGTYRXP3_124, AV44 MGTYRXN3_124, AW3 MGTYRXN2_224, AW4 MGTYRXP2_224, AW8 MGTREFCLK0N_224, AW9 MGTREFCLK0P_224, AW40 MGTYTXP3_124, AW41 MGTYTXN3_124, AW45 MGTYRXP2_124, AW46 MGTYRXN2_124, AY38 MGTREFCLK1P_124, AY39 MGTREFCLK1N_124, BA1 MGTYRXN1_224, BA2 MGTYRXP1_224, BA4 MGTRREF_RS, BA5 MGTAVTTRCAL_RS, BA40 MGTREFCLK0P_124, BA41 MGTREFCLK0N_124, BA45 MGTYRXP1_124, BA46 MGTYRXN1_124, BB4 MGTYTXN2_224, BB5 MGTYTXP2_224, BB42 MGTYTXP2_124, BB43 MGTYTXN2_124, BC1 MGTYRXN0_224, BC2 MGTYRXP0_224, BC45 MGTYRXP0_124, BC46 MGTYRXN0_124, BD4 MGTYTXN1_224, BD5 MGTYTXP1_224, BD42 MGTYTXP1_124, BD43 MGTYTXN1_124, BE42 MGTAVTTRCAL_LS, BE43 MGTRREF_LS, BF4 MGTYTXN0_224, BF5 MGTYTXP0_224, BF42 MGTYTXP0_124, BF43 MGTYTXN0_124
part J pins: AA3 MGTYRXN0_229, AA4 MGTYRXP0_229, AA8 MGTYTXN0_229, AA9 MGTYTXP0_229, AA36 MGTREFCLK1P_129, AA37 MGTREFCLK1N_129, AA40 MGTYTXP0_129, AA41 MGTYTXN0_129, AA45 MGTYRXP0_129, AA46 MGTYRXN0_129, AB1 MGTYRXN3_228, AB2 MGTYRXP3_228, AB6 MGTYTXN3_228, AB7 MGTYTXP3_228, AB10 MGTREFCLK1N_228, AB11 MGTREFCLK1P_228, AB38 MGTYTXP3_128, AB39 MGTYTXN3_128, AB43 MGTYRXP3_128, AB44 MGTYRXN3_128, AC3 MGTYRXN2_228, AC4 MGTYRXP2_228, AC8 MGTYTXN2_228, AC9 MGTYTXP2_228, AC36 MGTREFCLK0P_129, AC37 MGTREFCLK0N_129, AC40 MGTYTXP2_128, AC41 MGTYTXN2_128, AC45 MGTYRXP2_128, AC46 MGTYRXN2_128, AD1 MGTYRXN1_228, AD2 MGTYRXP1_228, AD6 MGTYTXN1_228, AD7 MGTYTXP1_228, AD10 MGTREFCLK0N_228, AD11 MGTREFCLK0P_228, AD38 MGTYTXP1_128, AD39 MGTYTXN1_128, AD43 MGTYRXP1_128, AD44 MGTYRXN1_128, AE3 MGTYRXN0_228, AE4 MGTYRXP0_228, AE8 MGTYTXN0_228, AE9 MGTYTXP0_228, AE36 MGTREFCLK1P_128, AE37 MGTREFCLK1N_128, AE40 MGTYTXP0_128, AE41 MGTYTXN0_128, AE45 MGTYRXP0_128, AE46 MGTYRXN0_128, AG36 MGTREFCLK0P_128, AG37 MGTREFCLK0N_128, B42 MGTAVTTRCAL_LC, B43 MGTRREF_LC, C6 MGTRREF_RC, C7 MGTAVTTRCAL_RC, J40 MGTYTXP3_131, J41 MGTYTXN3_131, K1 MGTYRXN3_231, K2 MGTYRXP3_231, K6 MGTYTXN3_231, K7 MGTYTXP3_231, K10 MGTREFCLK1N_231, K11 MGTREFCLK1P_231, K43 MGTYRXP3_131, K44 MGTYRXN3_131, L3 MGTYRXN2_231, L4 MGTYRXP2_231, L8 MGTYTXN2_231, L9 MGTYTXP2_231, L40 MGTYTXP2_131, L41 MGTYTXN2_131, L45 MGTYRXP2_131, L46 MGTYRXN2_131, M1 MGTYRXN1_231, M2 MGTYRXP1_231, M6 MGTYTXN1_231, M7 MGTYTXP1_231, M10 MGTREFCLK0N_231, M11 MGTREFCLK0P_231, M38 MGTYTXP1_131, M39 MGTYTXN1_131, M43 MGTYRXP1_131, M44 MGTYRXN1_131, N3 MGTYRXN0_231, N4 MGTYRXP0_231, N8 MGTYTXN0_231, N9 MGTYTXP0_231, N36 MGTREFCLK1P_131, N37 MGTREFCLK1N_131, N40 MGTYTXP0_131, N41 MGTYTXN0_131, N45 MGTYRXP0_131, N46 MGTYRXN0_131, P1 MGTYRXN3_230, P2 MGTYRXP3_230, P6 MGTYTXN3_230, P7 MGTYTXP3_230, P10 MGTREFCLK1N_230, P11 MGTREFCLK1P_230, P38 MGTYTXP3_130, P39 MGTYTXN3_130, P43 MGTYRXP3_130, P44 MGTYRXN3_130, R3 MGTYRXN2_230, R4 MGTYRXP2_230, R8 MGTYTXN2_230, R9 MGTYTXP2_230, R36 MGTREFCLK0P_131, R37 MGTREFCLK0N_131, R40 MGTYTXP2_130, R41 MGTYTXN2_130, R45 MGTYRXP2_130, R46 MGTYRXN2_130, T1 MGTYRXN1_230, T2 MGTYRXP1_230, T6 MGTYTXN1_230, T7 MGTYTXP1_230, T10 MGTREFCLK0N_230, T11 MGTREFCLK0P_230, T38 MGTYTXP1_130, T39 MGTYTXN1_130, T43 MGTYRXP1_130, T44 MGTYRXN1_130, U3 MGTYRXN0_230, U4 MGTYRXP0_230, U8 MGTYTXN0_230, U9 MGTYTXP0_230, U36 MGTREFCLK1P_130, U37 MGTREFCLK1N_130, U40 MGTYTXP0_130, U41 MGTYTXN0_130, U45 MGTYRXP0_130, U46 MGTYRXN0_130, V1 MGTYRXN3_229, V2 MGTYRXP3_229, V6 MGTYTXN3_229, V7 MGTYTXP3_229, V10 MGTREFCLK1N_229, V11 MGTREFCLK1P_229, V38 MGTYTXP3_129, V39 MGTYTXN3_129, V43 MGTYRXP3_129, V44 MGTYRXN3_129, W3 MGTYRXN2_229, W4 MGTYRXP2_229, W8 MGTYTXN2_229, W9 MGTYTXP2_229, W36 MGTREFCLK0P_130, W37 MGTREFCLK0N_130, W40 MGTYTXP2_129, W41 MGTYTXN2_129, W45 MGTYRXP2_129, W46 MGTYRXN2_129, Y1 MGTYRXN1_229, Y2 MGTYRXP1_229, Y6 MGTYTXN1_229, Y7 MGTYTXP1_229, Y10 MGTREFCLK0N_229, Y11 MGTREFCLK0P_229, Y38 MGTYTXP1_129, Y39 MGTYTXN1_129, Y43 MGTYRXP1_129, Y44 MGTYRXN1_129
part K pins: A4 MGTYRXN3_233, A5 MGTYRXP3_233, A8 MGTYTXN3_233, A9 MGTYTXP3_233, A42 MGTYTXP3_133, A43 MGTYTXN3_133, B10 MGTREFCLK1N_233, B11 MGTREFCLK1P_233, C3 MGTYRXN2_233, C4 MGTYRXP2_233, C8 MGTYTXN2_233, C9 MGTYTXP2_233, C42 MGTYTXP2_133, C43 MGTYTXN2_133, D1 MGTYRXN1_233, D2 MGTYRXP1_233, D6 MGTYTXN1_233, D7 MGTYTXP1_233, D10 MGTREFCLK0N_233, D11 MGTREFCLK0P_233, D45 MGTYRXP3_133, D46 MGTYRXN3_133, E3 MGTYRXN0_233, E4 MGTYRXP0_233, E8 MGTYTXN0_233, E9 MGTYTXP0_233, E42 MGTYTXP1_133, E43 MGTYTXN1_133, F1 MGTYRXN3_232, F2 MGTYRXP3_232, F6 MGTYTXN3_232, F7 MGTYTXP3_232, F10 MGTREFCLK1N_232, F11 MGTREFCLK1P_232, F45 MGTYRXP2_133, F46 MGTYRXN2_133, G3 MGTYRXN2_232, G4 MGTYRXP2_232, G8 MGTYTXN2_232, G9 MGTYTXP2_232, G40 MGTYTXP0_133, G41 MGTYTXN0_133, H1 MGTYRXN1_232, H2 MGTYRXP1_232, H6 MGTYTXN1_232, H7 MGTYTXP1_232, H10 MGTREFCLK0N_232, H11 MGTREFCLK0P_232, H43 MGTYRXP1_133, H44 MGTYRXN1_133, J3 MGTYRXN0_232, J4 MGTYRXP0_232, J8 MGTYTXN0_232, J9 MGTYTXP0_232, J45 MGTYRXP0_133, J46 MGTYRXN0_133, K38 MGTREFCLK1P_133, K39 MGTREFCLK1N_133, L36 MGTREFCLK0P_133, L37 MGTREFCLK0N_133
part L pins: A3 GND, A6 GND, A10 GND, A12 GND, A21 GND, A31 GND, A41 GND, A44 GND, AA14 VCCINT, AA16 VCCINT, AA18 VCCINT, AA20 VCCINT, AA22 VCCINT, AA24 VCCINT, AA26 VCCAUXIO, AA28 VCCAUXIO, AA30 VCCAUX, AB13 VCCBRAM, AB15 VCCINT, AB17 VCCINT, AB19 VCCINT, AB21 VCCINT, AB23 VCCINT, AB25 VCCINT_IO, AB27 VCCAUXIO, AB29 VCCAUX, AC14 VCCBRAM, AC16 VCCINT, AC18 VCCINT, AC20 VCCINT, AC22 VCCINT, AC24 VCCINT_IO, AC26 VCCAUXIO, AC28 VCCAUXIO, AC30 VCCAUX, AD15 VCCINT, AD17 VCCINT, AD19 VCCINT, AD21 VCCINT, AD23 VCCINT, AD25 VCCINT_IO, AD27 VCCAUXIO, AD29 VCCAUX, AE14 VCCBRAM, AE16 VCCINT, AE18 VCCINT, AE20 VCCINT, AE22 VCCINT, AE24 VCCINT, AE26 VCCINT_IO, AE28 VCCAUXIO, AF15 VCCINT, AF17 VCCINT, AF21 VCCINT, AF23 VCCINT, AF25 VCCINT_IO, AF27 VCCAUXIO, AF29 VCCAUX, AG14 VCCBRAM, AG16 VCCINT, AG20 VCCINT, AG22 VCCINT, AG24 VCCINT, AG26 VCCAUXIO, AG28 VCCAUXIO, AH13 VCCINT, AH15 VCCINT, AH17 VCCINT, AH21 VCCINT, AH23 VCCINT, AH25 VCCINT_IO, AH27 VCCAUXIO, AJ14 VCCINT, AJ16 VCCINT, AJ20 VCCINT, AJ22 VCCINT, AJ24 VCCINT, AJ26 VCCAUXIO, AK13 VCCINT, AK15 VCCINT, AK17 VCCINT, AK19 VCCINT, AK21 VCCINT, AK23 VCCINT, B2 GND, B4 GND, B5 GND, B6 GND, B7 GND, B8 GND, B12 GND, B18 GND, B28 GND, B38 GND, B41 GND, B44 GND, B45 GND, C1 GND, C2 GND, C5 GND, C11 GND, C12 GND, C15 GND, C25 GND, C35 GND, C41 GND, C44 GND, C46 GND, D3 GND, D4 GND, D5 GND, D9 GND, D12 GND, D22 GND, D32 GND, D41 GND, D42 GND, D44 GND, E1 GND, E2 GND, E5 GND, E6 GND, E10 GND, E12 GND, E19 GND, E29 GND, E41 GND, E44 GND, E45 GND, E46 GND, F3 GND, F4 GND, F5 GND, F8 GND, F12 GND, F16 GND, F26 GND, F36 GND, F39 GND, F40 GND, F41 GND, F44 GND, G1 GND, T13 VCCINT, T15 VCCINT, T17 VCCINT, T19 VCCINT, T21 VCCINT, T23 VCCINT, T25 VCCINT_IO, U14 VCCINT, U16 VCCINT, U18 VCCINT, U20 VCCINT, U22 VCCINT, U24 VCCINT, U26 VCCAUXIO, U28 VCCAUXIO, V13 VCCINT, V15 VCCINT, V17 VCCINT, V19 VCCINT, V21 VCCINT, V23 VCCINT, V25 VCCINT_IO, V27 VCCAUXIO, V29 VCCAUX, W14 VCCINT, W16 VCCINT, W18 VCCINT, W20 VCCINT, W22 VCCINT, W24 VCCINT, W26 VCCAUXIO, W28 VCCAUX, Y13 VCCBRAM, Y15 VCCINT, Y17 VCCINT, Y19 VCCINT, Y21 VCCINT, Y23 VCCINT, Y25 VCCINT_IO, Y27 VCCAUXIO, Y29 VCCAUX
part M pins: A7 MGTAVCC_RN, A11 MGTAVCC_RN, AA11 MGTAVCC_RS, AA39 MGTAVTT_LN, AB9 MGTAVTT_RS, AB36 MGTVCCAUX_LN, AB41 MGTAVTT_LN, AC6 MGTAVTT_RS, AC11 MGTVCCAUX_RS, AC38 MGTAVTT_LN, AD8 MGTAVTT_RS, AD36 MGTAVCC_LN, AD40 MGTAVTT_LN, AE7 MGTAVTT_RS, AE11 MGTVCCAUX_RS, AE39 MGTAVTT_LN, AF9 MGTAVTT_RS, AF37 MGTAVCC_LN, AF41 MGTAVTT_LN, AG6 MGTAVTT_RS, AG10 MGTAVCC_RS, AG38 MGTAVCC_LS, AH8 MGTAVTT_RS, AH36 MGTVCCAUX_LS, AH40 MGTAVTT_LS, AJ7 MGTAVTT_RS, AJ11 MGTAVCC_RS, AJ39 MGTAVTT_LS, AK9 MGTAVTT_RS, AK36 MGTVCCAUX_LS, AK41 MGTAVTT_LS, AL6 MGTAVTT_RS, AL10 MGTAVCC_RS, AL38 MGTAVCC_LS, AM8 MGTAVTT_RS, AM36 MGTAVCC_LS, AM40 MGTAVTT_LS, AN7 MGTAVTT_RS, AN11 MGTAVCC_RS, AN39 MGTAVTT_LS, AP9 MGTAVCC_RS, AP37 MGTAVCC_LS, AP41 MGTAVTT_LS, AR6 MGTAVTT_RS, AR10 MGTAVCC_RS, AR38 MGTAVCC_LS, AT8 MGTAVTT_RS, AT36 MGTAVCC_LS, AT40 MGTAVTT_LS, AU7 MGTAVTT_RS, AU11 MGTAVCC_RS, AU39 MGTAVTT_LS, AV9 MGTAVCC_RS, AV41 MGTAVTT_LS, AW7 MGTAVCC_RS, AW38 MGTAVCC_LS, AY40 MGTAVCC_LS, B3 MGTAVTT_RN, B9 MGTAVCC_RN, BA42 MGTAVTT_LS, BA43 MGTAVTT_LS, BC5 MGTAVTT_RS, BC43 MGTAVTT_LS, BD2 MGTAVTT_RS, BD45 MGTAVTT_LS, BE4 MGTAVTT_RS, BE44 MGTAVTT_LS, C10 MGTAVCC_RN, C45 MGTAVTT_LN, D8 MGTAVTT_RN, D43 MGTAVTT_LN, E7 MGTAVTT_RN, E11 MGTAVCC_RN, F9 MGTAVTT_RN, F42 MGTAVTT_LN, F43 MGTAVTT_LN, G6 MGTAVTT_RN, G10 MGTAVCC_RN, H8 MGTAVTT_RN, H40 MGTAVTT_LN, J7 MGTAVTT_RN, J11 MGTAVCC_RN, K9 MGTAVTT_RN, K41 MGTAVTT_LN, L6 MGTAVTT_RN, L10 MGTAVCC_RN, L38 MGTAVCC_LN, M8 MGTAVTT_RN, M36 MGTAVCC_LN, M40 MGTAVTT_LN, N7 MGTAVTT_RN, N11 MGTAVCC_RN, N39 MGTAVCC_LN, P9 MGTAVTT_RN, P37 MGTAVCC_LN, P41 MGTAVTT_LN, R6 MGTAVTT_RN, R11 MGTVCCAUX_RN, R38 MGTAVCC_LN, T8 MGTAVTT_RN, T36 MGTAVCC_LN, T40 MGTAVTT_LN, U7 MGTAVTT_RN, U11 MGTVCCAUX_RN, U39 MGTAVCC_LN, V9 MGTAVTT_RN, V37 MGTAVCC_LN, V41 MGTAVTT_LN, W6 MGTAVTT_RN, W10 MGTAVCC_RN, W38 MGTAVTT_LN, Y8 MGTAVTT_RN, Y36 MGTVCCAUX_LN, Y40 MGTAVTT_LN
part N pins: AA1 GND, AA2 GND, AA5 GND, AA6 GND, AA7 GND, AA10 GND, AA13 GND, AA15 GND, AA17 GND, AA19 GND, AA21 GND, AA23 GND, AA25 GND, AA27 GND, AA29 GND, AA31 GND, AA35 GND, AA38 GND, AA42 GND, AA43 GND, AA44 GND, AB3 GND, AB4 GND, AB5 GND, AB8 GND, AB12 GND, AB14 GND, AB16 GND, AB18 GND, AB20 GND, AB22 GND, AB24 GND, AB26 GND, AB28 GND, AB30 GND, AB35 GND, AB37 GND, AB40 GND, AB42 GND, AB45 GND, AB46 GND, AC1 GND, AC2 GND, AC5 GND, AC7 GND, AC10 GND, AC15 GND, AC17 GND, AC19 GND, AC21 GND, AC23 GND, AC25 GND, AC27 GND, AC29 GND, AC35 GND, AC39 GND, AC42 GND, AC43 GND, AC44 GND, AD3 GND, AD4 GND, AD5 GND, AD9 GND, AD14 GND, AD16 GND, AD18 GND, AD20 GND, AD22 GND, AD24 GND, AD26 GND, AD28 GND, AD32 GND, AD35 GND, AD37 GND, AD41 GND, AD42 GND, AD45 GND, AD46 GND, AE1 GND, AE2 GND, AE5 GND, AE6 GND, AE10 GND, G2 GND, G5 GND, G7 GND, G11 GND, G12 GND, G13 GND, G23 GND, G33 GND, G39 GND, G42 GND, G43 GND, G44 GND, G45 GND, G46 GND, H3 GND, H4 GND, H5 GND, H9 GND, H12 GND, H20 GND, H30 GND, H39 GND, H41 GND, H42 GND, H45 GND, H46 GND, J1 GND, J2 GND, J5 GND, J6 GND, J10 GND, J12 GND, J17 GND, J27 GND, J37 GND, J38 GND, J39 GND, J42 GND, J43 GND, J44 GND, K3 GND, K4 GND, K5 GND, K8 GND, K12 GND, K14 GND, K24 GND, K35 GND, K36 GND, K37 GND, K40 GND, K42 GND, K45 GND, K46 GND, L1 GND, L2 GND, L5 GND, L7 GND, L11 GND, L12 GND, L21 GND, L31 GND, L35 GND, L39 GND, L42 GND, L43 GND, L44 GND, M3 GND, M4 GND, M5 GND, M9 GND, M12 GND, M18 GND, M28 GND, M35 GND, M37 GND, M41 GND, M42 GND, M45 GND, M46 GND, N1 GND, N2 GND, N5 GND, N6 GND, N10 GND, N12 GND, N15 GND, N25 GND, N35 GND, N38 GND, N42 GND, N43 GND, N44 GND, P3 GND, P4 GND, P5 GND, P8 GND, P12 GND, P22 GND, P32 GND, P35 GND, P36 GND, P40 GND, P42 GND, P45 GND, P46 GND, R1 GND, R2 GND, R5 GND, R7 GND, R10 GND, R19 GND, R29 GND, R35 GND, R39 GND, R42 GND, R43 GND, R44 GND, T3 GND, T4 GND, T5 GND, T9 GND, T12 GND, T14 GND, T16 GND, T18 GND, T20 GND, T22 GND, T24 GND, T35 GND, T37 GND, T41 GND, T42 GND, T45 GND, T46 GND, U1 GND, U2 GND, U5 GND, U6 GND, U10 GND, U13 GND, U15 GND, U17 GND, U19 GND, U21 GND, U23 GND, U25 GND, U27 GND, U33 GND, U35 GND, U38 GND, U42 GND, U43 GND, U44 GND, V3 GND, V4 GND, V5 GND, V8 GND, V14 GND, V16 GND, V18 GND, V20 GND, V22 GND, V24 GND, V26 GND, V28 GND, V30 GND, V35 GND, V36 GND, V40 GND, V42 GND, V45 GND, V46 GND, W1 GND, W2 GND, W5 GND, W7 GND, W11 GND, W13 GND, W15 GND, W17 GND, W19 GND, W21 GND, W23 GND, W25 GND, W27 GND, W29 GND, W35 GND, W39 GND, W42 GND, W43 GND, W44 GND, Y3 GND, Y4 GND, Y5 GND, Y9 GND, Y14 GND, Y16 GND, Y18 GND, Y20 GND, Y22 GND, Y24 GND, Y26 GND, Y28 GND, Y34 GND, Y35 GND, Y37 GND, Y41 GND, Y42 GND, Y45 GND, Y46 GND
part O pins: AE17 GND, AE19 GND, AE21 GND, AE23 GND, AE25 GND, AE27 GND, AE29 GND, AE35 GND, AE38 GND, AE42 GND, AE43 GND, AE44 GND, AF3 GND, AF4 GND, AF5 GND, AF8 GND, AF12 GND, AF14 GND, AF16 GND, AF20 GND, AF22 GND, AF24 GND, AF26 GND, AF28 GND, AF35 GND, AF36 GND, AF40 GND, AF42 GND, AF45 GND, AF46 GND, AG1 GND, AG2 GND, AG5 GND, AG7 GND, AG11 GND, AG17 GND, AG21 GND, AG23 GND, AG25 GND, AG27 GND, AG33 GND, AG35 GND, AG39 GND, AG42 GND, AG43 GND, AG44 GND, AH3 GND, AH4 GND, AH5 GND, AH9 GND, AH14 GND, AH16 GND, AH20 GND, AH22 GND, AH24 GND, AH26 GND, AH30 GND, AH35 GND, AH37 GND, AH41 GND, AH42 GND, AH45 GND, AH46 GND, AJ1 GND, AJ2 GND, AJ5 GND, AJ6 GND, AJ10 GND, AJ13 GND, AJ15 GND, AJ17 GND, AJ21 GND, AJ23 GND, AJ25 GND, AJ35 GND, AJ38 GND, AJ42 GND, AJ43 GND, AJ44 GND, AK3 GND, AK4 GND, AK5 GND, AK8 GND, AK14 GND, AK16 GND, AK18 GND, AK20 GND, AK22 GND, AK24 GND, AK34 GND, AK35 GND, AK37 GND, AK40 GND, AK42 GND, AK45 GND, AK46 GND, AL1 GND, AL2 GND, AL5 GND, AL7 GND, AL11 GND, AL31 GND, AL35 GND, AL39 GND, AL42 GND, AL43 GND, AL44 GND, AM3 GND, AM4 GND, AM5 GND, AM9 GND, AM18 GND, AM28 GND, AM35 GND, AM37 GND, AM41 GND, AM42 GND, AM45 GND, AM46 GND, AN1 GND, AN2 GND, AN5 GND, AN6 GND, AN10 GND, AN12 GND, AN15 GND, AN25 GND, AN35 GND, AN38 GND, AN42 GND, AN43 GND, AN44 GND, AP3 GND, AP4 GND, AP5 GND, AP8 GND, AP12 GND, AP22 GND, AP32 GND, AP35 GND, AP36 GND, AP40 GND, AP42 GND, AP45 GND, AP46 GND, AR1 GND, AR2 GND, AR5 GND, AR7 GND, AR11 GND, AR12 GND, AR19 GND, AR29 GND, AR35 GND, AR39 GND, AR42 GND, AR43 GND, AR44 GND, AT3 GND, AT4 GND, AT5 GND, AT9 GND, AT12 GND, AT16 GND, AT26 GND, AT35 GND, AT37 GND, AT41 GND, AT42 GND, AT45 GND, AT46 GND, AU1 GND, AU2 GND, AU5 GND, AU6 GND, AU10 GND, AU12 GND, AU23 GND, AU33 GND, AU35 GND, AU38 GND, AU42 GND, AU43 GND, AU44 GND, AV3 GND, AV4 GND, AV5 GND, AV8 GND, AV12 GND, AV20 GND, AV30 GND, AV35 GND, AV36 GND, AV37 GND, AV40 GND, AV42 GND, AV45 GND, AV46 GND, AW1 GND, AW2 GND, AW5 GND, AW6 GND, AW10 GND, AW11 GND, AW12 GND, AW17 GND, AW27 GND, AW37 GND, AW39 GND, AW42 GND, AW43 GND, AW44 GND, AY1 GND, AY2 GND, AY3 GND, AY4 GND, AY5 GND, AY6 GND, AY7 GND, AY8 GND, AY9 GND, AY10 GND, AY14 GND, AY24 GND, AY34 GND, AY37 GND, AY41 GND, AY42 GND, AY43 GND, AY44 GND, AY45 GND, AY46 GND, BA3 GND, BA6 GND, BA11 GND, BA21 GND, BA31 GND, BA37 GND, BA38 GND, BA39 GND, BA44 GND, BB1 GND, BB2 GND, BB3 GND, BB6 GND, BB8 GND, BB18 GND, BB28 GND, BB39 GND, BB40 GND, BB41 GND, BB44 GND, BB45 GND, BB46 GND, BC3 GND, BC4 GND, BC6 GND, BC15 GND, BC25 GND, BC35 GND, BC41 GND, BC42 GND, BC44 GND, BD1 GND, BD3 GND, BD6 GND, BD12 GND, BD22 GND, BD32 GND, BD41 GND, BD44 GND, BD46 GND, BE2 GND, BE3 GND, BE5 GND, BE6 GND, BE9 GND, BE19 GND, BE29 GND, BE39 GND, BE41 GND, BE45 GND, BF3 GND, BF6 GND, BF16 GND, BF26 GND, BF36 GND, BF41 GND, BF44 GND
part A text: XCVU13P-B2104; Bank0
part B text: XCVU13P-B2104; Bank61; Bank62
part C text: XCVU13P-B2104; Bank63; Bank64
part D text: XCVU13P-B2104; Bank65; Bank66
part E text: XCVU13P-B2104; Bank67; Bank68
part F text: XCVU13P-B2104; Bank69; Bank70
part G text: XCVU13P-B2104; Bank71; Bank72
part H text: XCVU13P-B2104; Bank73; Bank74
part I text: XCVU13P-B2104; MGT_LS; MGT_RS
part J text: XCVU13P-B2104; MGT_LC; MGT_RC
part K text: XCVU13P-B2104; MGT_LN; MGT_RN
part L text: XCVU13P-B2104; POWER
part M text: XCVU13P-B2104; POWER MGT
part N text: XCVU13P-B2104; GND-PINS1
part O text: XCVU13P-B2104; GND-PINS2